# EAGLE library part RF-XBEE-RF_BEE (library p.peter-periphery)
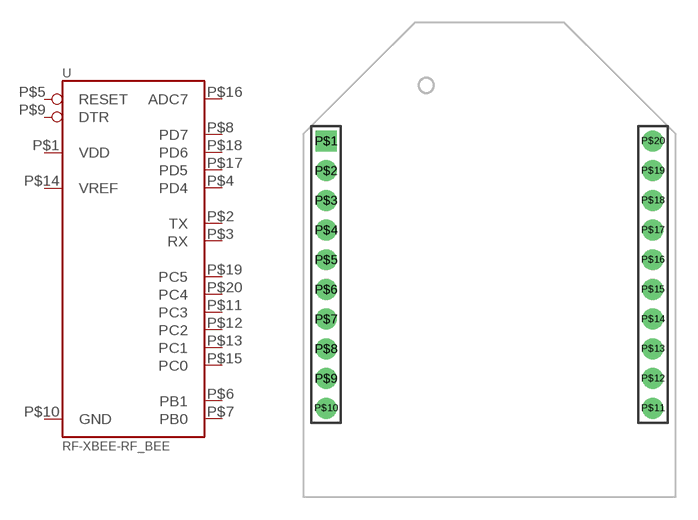
[diagram p6: symbol with the pads of RF-XBEE-DEFAULT; footprint RF-XBEE-DEFAULT]

Designator prefix -

## RF-XBEE-RF_BEE  [RF-XBEE-DEFAULT]
P$1  VDD
P$2  TX
P$3  RX
P$4  PD4
P$5  RESET
P$6  PB1
P$7  PB0
P$8  PD7
P$9  DTR
P$10  GND
P$11  PC3
P$12  PC2
P$13  PC1
P$14  VREF
P$15  PC0
P$16  ADC7
P$17  PD5
P$18  PD6
P$19  PC5
P$20  PC4

## Footprint RF-XBEE-DEFAULT (pad centres in mm)
drill 0.9 square: P$1 -11,9
drill 0.9: P$2 -11,7; P$3 -11,5; P$4 -11,3; P$5 -11,1; P$6 -11,-1; P$7 -11,-3; P$8 -11,-5; P$9 -11,-7; P$10 -11,-9; P$11 11,-9; P$12 11,-7; P$13 11,-5; P$14 11,-3; P$15 11,-1; P$16 11,1; P$17 11,3; P$18 11,5; P$19 11,7; P$20 11,9